# Altium footprint library SAMTEC SSW-110-03-T-S.PCBLIB: 1 footprints
Each footprint in its own frame and in the unit in brackets; x right, y up, seen from the top. Pads: shape width x height; smd on the part's side, far side on the other; paste and mask are expansions set on the pad; w line width, h text height; cw(c..) or ccw(c..) is an arc to the next point about the centre after c.
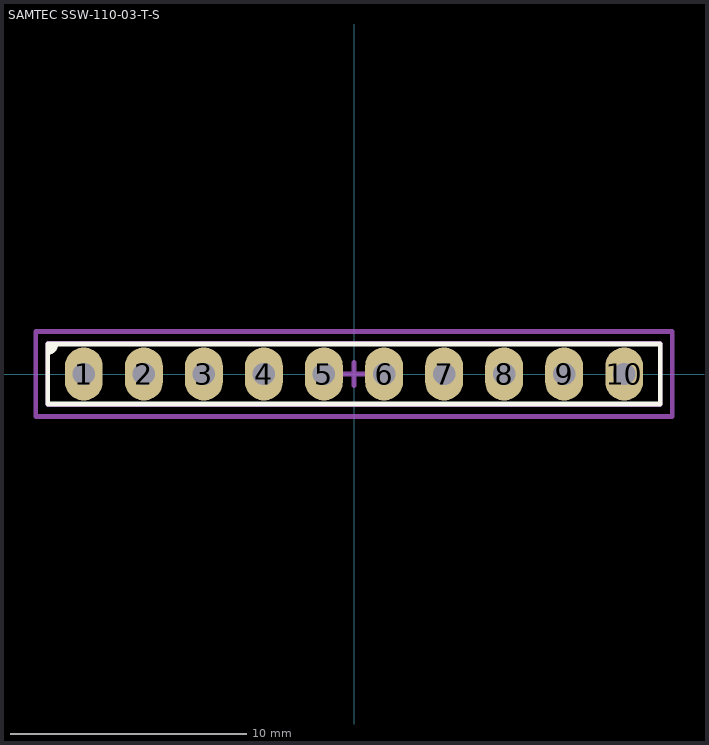
[diagram p0: the footprint, top view; thin cyan lines are the x and y axes]

## SAMTEC SSW-110-03-T-S [mm]
height 8.51
pads (10):
  oval 1.6x2.25 hole 0.95: 1(-11.43,0) 2(-8.89,0) 3(-6.35,0) 4(-3.81,0) 5(-1.27,0) 6(1.27,0) 7(3.81,0) 8(6.35,0) 9(8.89,0) 10(11.43,0)
Top Overlay:
  region: -12.96,1.27 -12.62,1.27 -12.62,1.1 -12.82,0.9 -12.96,0.9
  lines w0.2: -12.96,0.9 ccw(c-12.96,1.24) -12.62,1.24 -12.62,1.27 ; -12.96,-1.27 12.96,-1.27 12.96,1.27 -12.96,1.27 -12.96,-1.27
Mechanical 13:
  lines w0.2: -12.96,-1.3 -12.96,1.3 12.96,1.3 12.96,-1.3 -12.96,-1.3
Mechanical 15:
  lines w0.2: -0.5,0 0.5,0 ; 0,-0.5 0,0.5 ; -13.46,-1.8 13.46,-1.8 13.46,1.8 -13.46,1.8 -13.46,-1.8
3D body "Samtec-SSW-110-03-T-S.STEP": height 8.51, standoff -10.01, extent -12.954,-1.206 12.954,1.207